# Altium footprint library Klinken-Buchse.PcbLib: 5 footprints
Each footprint in its own frame and in the unit in brackets; x right, y up, seen from the top. Pads: shape width x height; smd on the part's side, far side on the other; paste and mask are expansions set on the pad; w line width, h text height; cw(c..) or ccw(c..) is an arc to the next point about the centre after c.
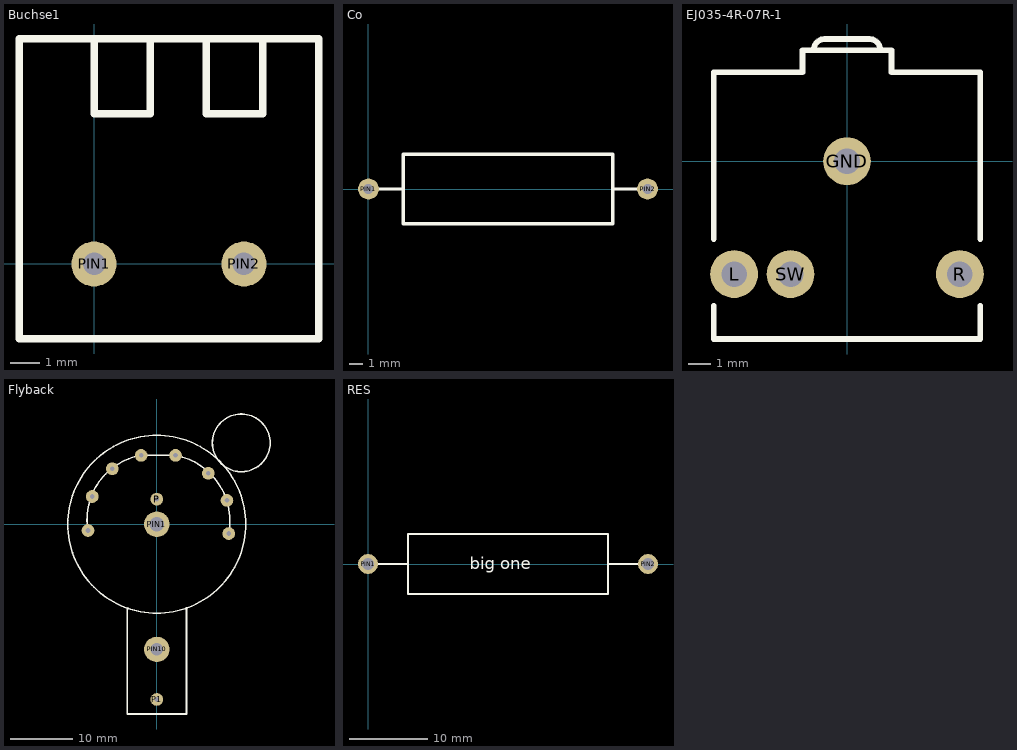
[diagram p0: the footprints below, top view; thin cyan lines are the x and y axes]

## Buchse1 [mil]
pads (2):
  round 60 hole 30: PIN1(0,0) PIN2(200,0)
Top Overlay:
  lines w10: -100,0 -100,300 ; 0,300 0,200 75,200 75,300 ; 150,300 150,200 225,200 225,300 ; -100,300 -100,-100 300,-100 300,300 -100,300

## Co [mil]
pads (2):
  round 60 hole 30: PIN1(0,0) PIN2(800,0)
Top Overlay:
  lines w10: 0,0 100,0 ; 700,0 800,0 ; 100,0 100,-100 700,-100 700,100 100,100 100,0

## EJ035-4R-07R-1 [mm]
height 6
pads (4):
  round 2.15 hole 1.15: GND(0,0) L(-5.08,-5.08) R(5.08,-5.08) SW(-2.54,-5.08)
Top Overlay:
  lines w0.254: -6,-6.5 -6,-8 6,-8 6,-6.5 ; -6,-3.5 -6,4 -2,4 -2,5 2,5 2,4 6,4 6,-3.5 ; -1.5,5 cw(c-1,5) -1,5.5 1,5.5 cw(c1,5) 1.5,5

## Flyback [mil]
pads (12):
  round 80 hole 30: P(0,157.48) P1(0,-1102.36) PIN2(-433.07,-39.37) PIN3(-280,349) PIN4(-98.43,433.07) PIN5(118.11,433.07) PIN6(324,320) PIN7(-406,174) PIN9(452.76,-59.06) PIN11(441,150)
  round 160 hole 90: PIN1(0,0)
  round 160 hole 80: PIN10(0,-787.4)
Top Overlay:
  circle w10: c531.5,511.81 r181.49
  circle w10: c0,0 r559.55
  lines w10: -433.07,-39.37 cw(c-29.53,29.53) -98.43,433.07 ; -187,-527.38 -187,-1194 187,-1194 187,-527 ; -98.42,433.07 118.11,433.07 cw(c39.37,19.69) 452.76,-59.06 ; -98.43,433.07 ccw(c-98.43,433.07) -98.43,433.07

## RES [mil]
pads (2):
  round 100 hole 60: PIN1(0,0) PIN2(1400,0)
Top Overlay:
  lines w10: 0,0 200,0 ; 1400,0 1200,0 ; 200,0 200,150 1200,150 1200,0 ; 200,0 200,-150 1200,-150 1200,0
  text "big one" at 509,-25.01 h60